# EAGLE library part TB6612 (library FaBo-Motor)
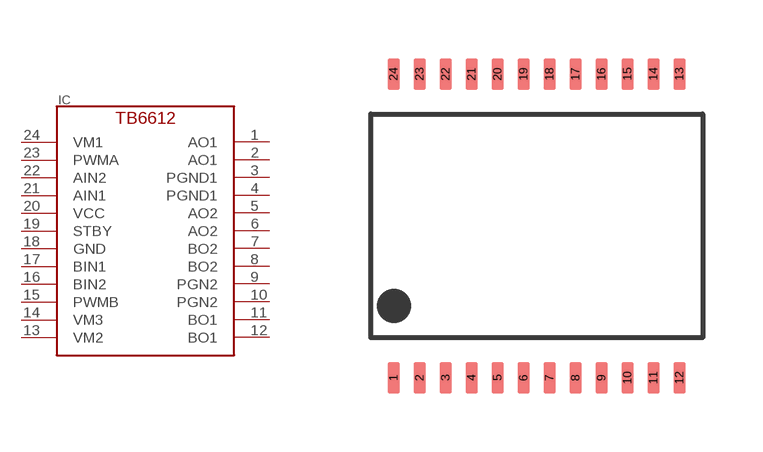
[diagram p7: symbol with the pads of TB6612; footprint TB6612]

Designator prefix IC

## TB6612  [TB6612]
1  AO1
2  AO1
3  PGND1
4  PGND1
5  AO2
6  AO2
7  BO2
8  BO2
9  PGN2
10  PGN2
11  BO1
12  BO1
13  VM2
14  VM3
15  PWMB
16  BIN2
17  BIN1
18  GND
19  STBY
20  VCC
21  AIN1
22  AIN2
23  PWMA
24  VM1

## Footprint TB6612 (pad centres in mm)
smd 0.3 x 0.8: 1 -3.575,-3.8; 2 -2.925,-3.8; 3 -2.275,-3.8; 4 -1.625,-3.8; 5 -0.975,-3.8; 6 -0.325,-3.8; 7 0.325,-3.8; 8 0.975,-3.8; 9 1.625,-3.8; 10 2.275,-3.8; 11 2.925,-3.8; 12 3.575,-3.8; 13 3.575,3.8; 14 2.925,3.8; 15 2.275,3.8; 16 1.625,3.8; 17 0.975,3.8; 18 0.325,3.8; 19 -0.325,3.8; 20 -0.975,3.8; 21 -1.625,3.8; 22 -2.275,3.8; 23 -2.925,3.8; 24 -3.575,3.8